# Altium schematic symbol library SCH - MCU - STM32 - ST MICROELECTRONICS STM32WB35C(C-E)UXA UFQFPN48.SchLib: 1 symbol
Pins are listed as number, name and electrical type; pins without a type are passive.

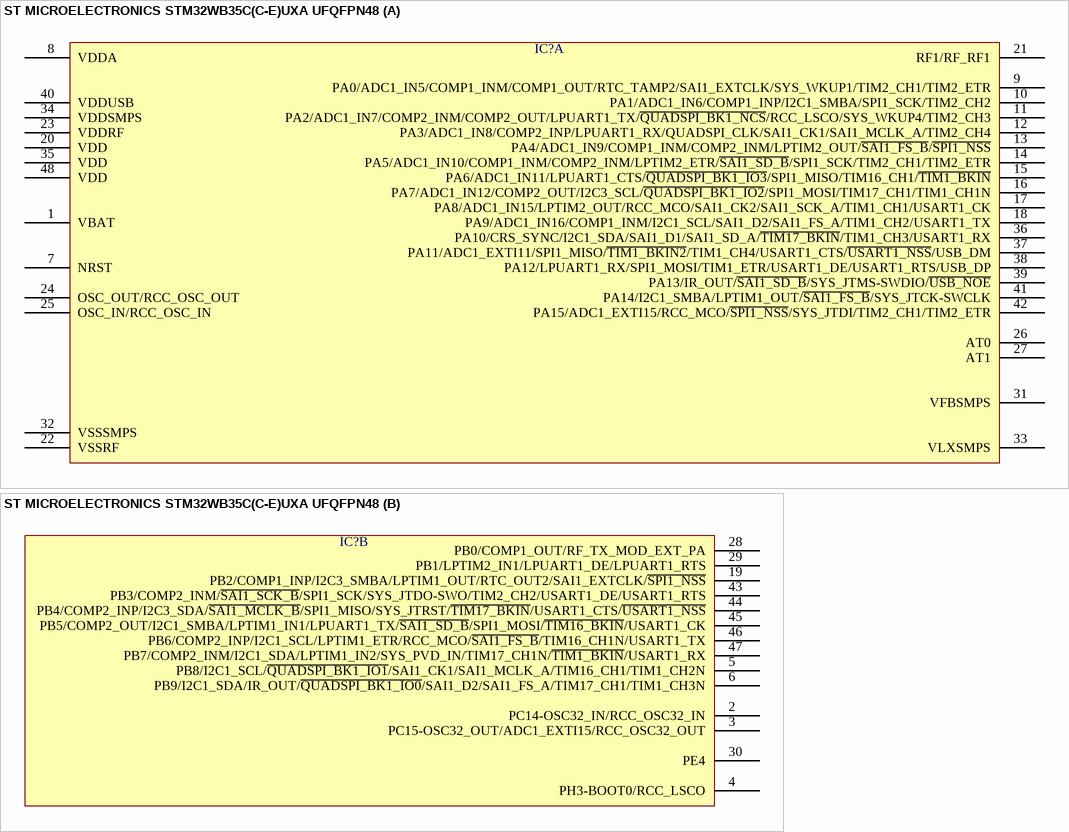
[diagram p0: symbol ST MICROELECTRONICS STM32WB35C(C-E)UXA UFQFPN48]

## ST MICROELECTRONICS STM32WB35C(C-E)UXA UFQFPN48
designator IC?  (value not drawn)
part A pins: 1 VBAT, 7 NRST, 8 VDDA, 9 PA0/ADC1_IN5/COMP1_INM/COMP1_OUT/RTC_TAMP2/SAI1_EXTCLK/SYS_WKUP1/TIM2_CH1/TIM2_ETR, 10 PA1/ADC1_IN6/COMP1_INP/I2C1_SMBA/SPI1_SCK/TIM2_CH2, 11 PA2/ADC1_IN7/COMP2_INM/COMP2_OUT/LPUART1_TX/~{QUADSPI_BK1_NCS}/RCC_LSCO/SYS_WKUP4/TIM2_CH3, 12 PA3/ADC1_IN8/COMP2_INP/LPUART1_RX/QUADSPI_CLK/SAI1_CK1/SAI1_MCLK_A/TIM2_CH4, 13 PA4/ADC1_IN9/COMP1_INM/COMP2_INM/LPTIM2_OUT/~{SAI1_FS_B}/~{SPI1_NSS}, 14 PA5/ADC1_IN10/COMP1_INM/COMP2_INM/LPTIM2_ETR/~{SAI1_SD_B}/SPI1_SCK/TIM2_CH1/TIM2_ETR, 15 PA6/ADC1_IN11/LPUART1_CTS/~{QUADSPI_BK1_IO3}/SPI1_MISO/TIM16_CH1/~{TIM1_BKIN}, 16 PA7/ADC1_IN12/COMP2_OUT/I2C3_SCL/~{QUADSPI_BK1_IO2}/SPI1_MOSI/TIM17_CH1/TIM1_CH1N, 17 PA8/ADC1_IN15/LPTIM2_OUT/RCC_MCO/SAI1_CK2/SAI1_SCK_A/TIM1_CH1/USART1_CK, 18 PA9/ADC1_IN16/COMP1_INM/I2C1_SCL/SAI1_D2/SAI1_FS_A/TIM1_CH2/USART1_TX, 20 VDD, 21 RF1/RF_RF1, 22 VSSRF, 23 VDDRF, 24 OSC_OUT/RCC_OSC_OUT, 25 OSC_IN/RCC_OSC_IN, 26 AT0, 27 AT1, 31 VFBSMPS, 32 VSSSMPS, 33 VLXSMPS, 34 VDDSMPS, 35 VDD, 36 PA10/CRS_SYNC/I2C1_SDA/SAI1_D1/SAI1_SD_A/~{TIM17_BKIN}/TIM1_CH3/USART1_RX, 37 PA11/ADC1_EXTI11/SPI1_MISO/~{TIM1_BKIN2}/TIM1_CH4/USART1_CTS/~{USART1_NSS}/USB_DM, 38 PA12/LPUART1_RX/SPI1_MOSI/TIM1_ETR/USART1_DE/USART1_RTS/USB_DP, 39 PA13/IR_OUT/~{SAI1_SD_B}/SYS_JTMS-SWDIO/~{USB_NOE}, 40 VDDUSB, 41 PA14/I2C1_SMBA/LPTIM1_OUT/~{SAI1_FS_B}/SYS_JTCK-SWCLK, 42 PA15/ADC1_EXTI15/RCC_MCO/~{SPI1_NSS}/SYS_JTDI/TIM2_CH1/TIM2_ETR, 48 VDD
part B pins: 2 PC14-OSC32_IN/RCC_OSC32_IN, 3 PC15-OSC32_OUT/ADC1_EXTI15/RCC_OSC32_OUT, 4 PH3-BOOT0/RCC_LSCO, 5 PB8/I2C1_SCL/~{QUADSPI_BK1_IO1}/SAI1_CK1/SAI1_MCLK_A/TIM16_CH1/TIM1_CH2N, 6 PB9/I2C1_SDA/IR_OUT/~{QUADSPI_BK1_IO0}/SAI1_D2/SAI1_FS_A/TIM17_CH1/TIM1_CH3N, 19 PB2/COMP1_INP/I2C3_SMBA/LPTIM1_OUT/RTC_OUT2/SAI1_EXTCLK/~{SPI1_NSS}, 28 PB0/COMP1_OUT/RF_TX_MOD_EXT_PA, 29 PB1/LPTIM2_IN1/LPUART1_DE/LPUART1_RTS, 30 PE4, 43 PB3/COMP2_INM/~{SAI1_SCK_B}/SPI1_SCK/SYS_JTDO-SWO/TIM2_CH2/USART1_DE/USART1_RTS, 44 PB4/COMP2_INP/I2C3_SDA/~{SAI1_MCLK_B}/SPI1_MISO/SYS_JTRST/~{TIM17_BKIN}/USART1_CTS/~{USART1_NSS}, 45 PB5/COMP2_OUT/I2C1_SMBA/LPTIM1_IN1/LPUART1_TX/~{SAI1_SD_B}/SPI1_MOSI/~{TIM16_BKIN}/USART1_CK, 46 PB6/COMP2_INP/I2C1_SCL/LPTIM1_ETR/RCC_MCO/~{SAI1_FS_B}/TIM16_CH1N/USART1_TX, 47 PB7/COMP2_INM/I2C1_SDA/LPTIM1_IN2/SYS_PVD_IN/TIM17_CH1N/~{TIM1_BKIN}/USART1_RX